# Altium schematic symbol library RF Module.SchLib: 12 symbols
Pins are listed as number, name and electrical type; pins without a type are passive.

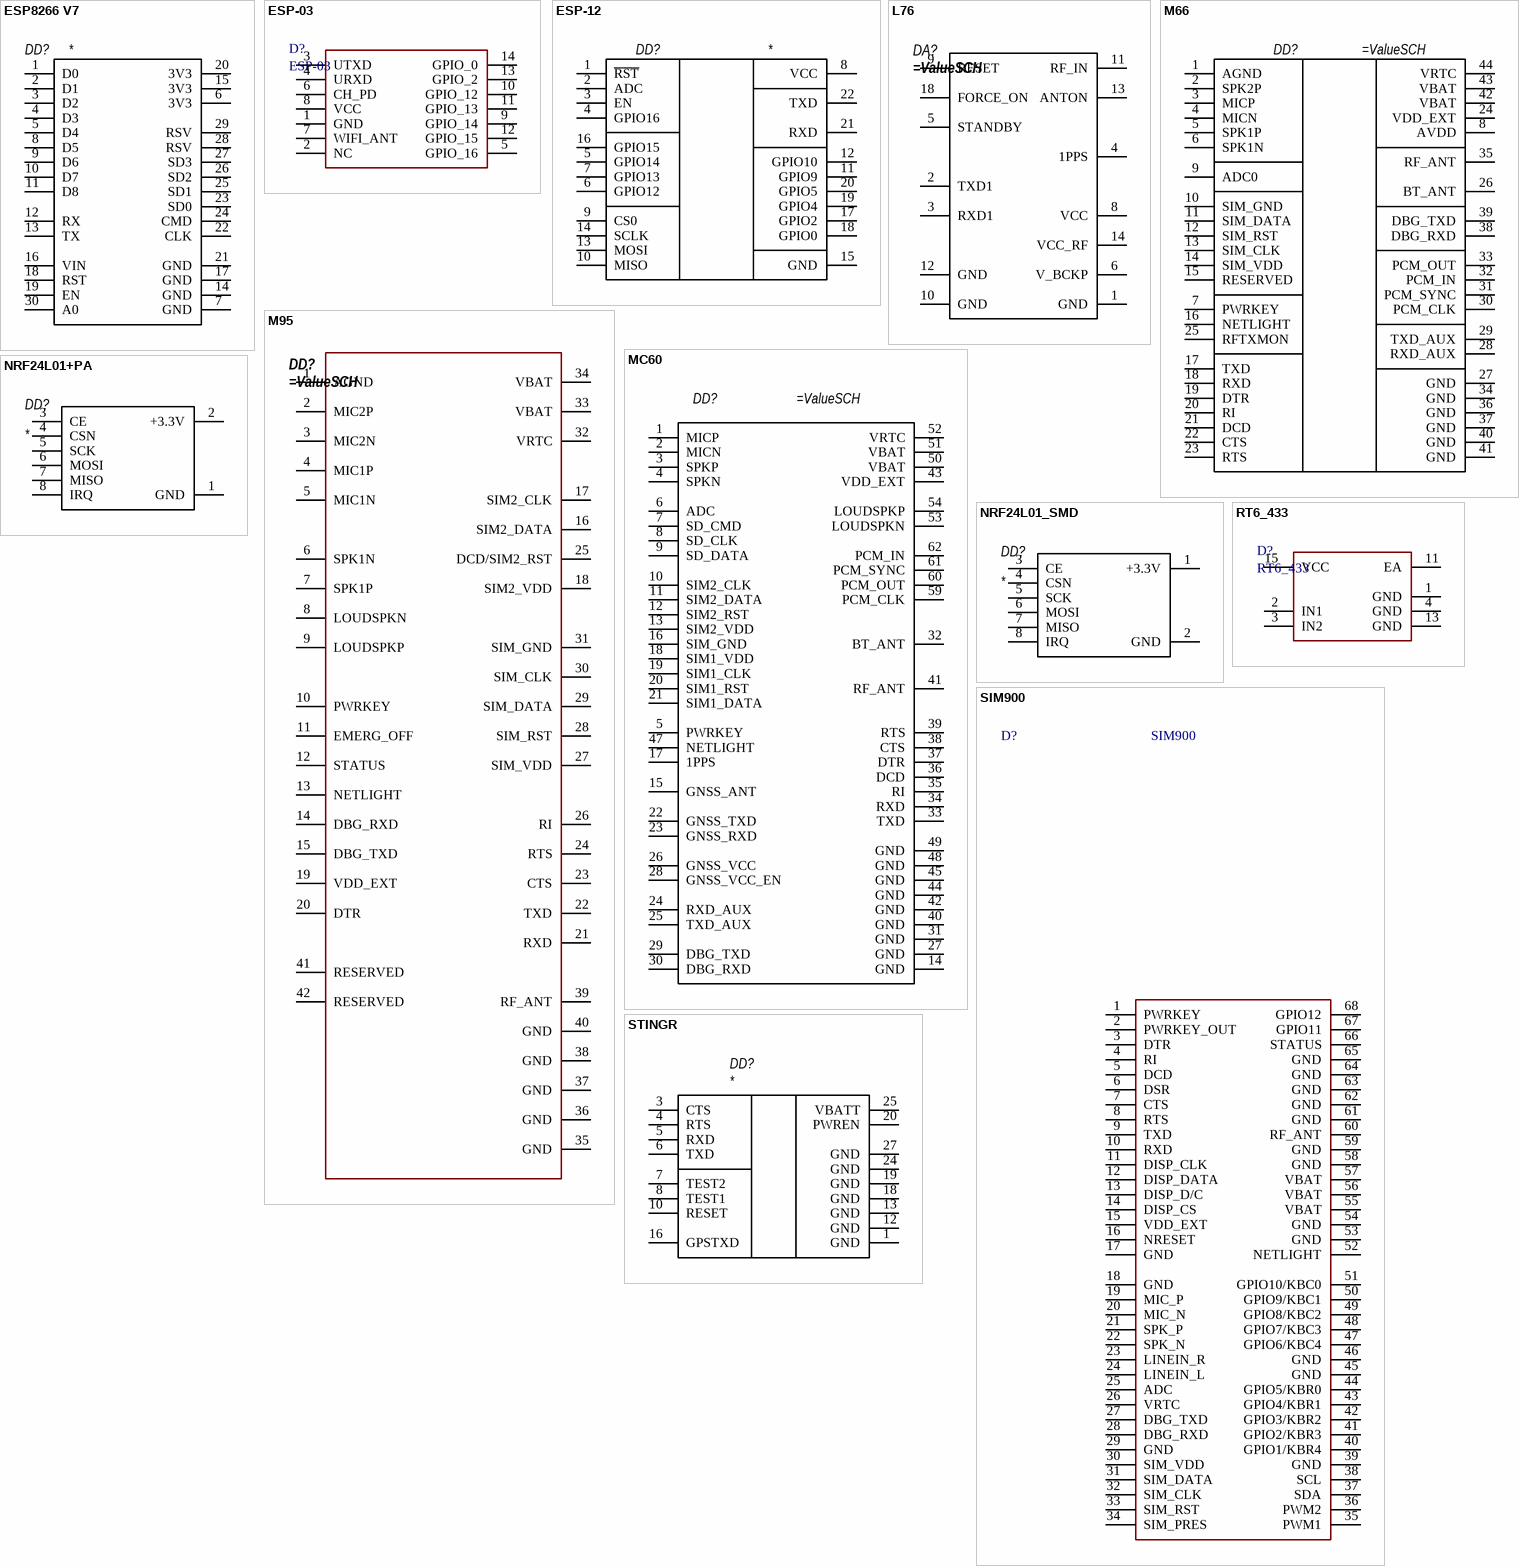
[diagram p0: symbols ESP8266 V7 to STINGR]

## ESP8266 V7
designator DD?
pins: 1 D0, 2 D1, 3 D2, 4 D3, 5 D4, 6 3V3, 7 GND, 8 D5, 9 D6, 10 D7, 11 D8, 12 RX, 13 TX, 14 GND, 15 3V3, 16 VIN, 17 GND, 18 RST, 19 EN, 20 3V3, 21 GND, 22 CLK, 23 SD0, 24 CMD, 25 SD1, 26 SD2, 27 SD3, 28 RSV, 29 RSV, 30 A0

## ESP-03
designator D?
ESP8266 ESP03
footprint ESP8266_SMD (ESP03)
pins: 1 GND, 2 NC, 3 UTXD, 4 URXD, 5 GPIO_16, 6 CH_PD, 7 WIFI_ANT, 8 VCC, 9 GPIO_14, 10 GPIO_12, 11 GPIO_13, 12 GPIO_15, 13 GPIO_2, 14 GPIO_0

## ESP-12
designator DD?
pins: 1 ~{RST}, 2 ADC, 3 EN, 4 GPIO16, 5 GPIO14, 6 GPIO12, 7 GPIO13, 8 VCC, 9 CS0, 10 MISO, 11 GPIO9, 12 GPIO10, 13 MOSI, 14 SCLK, 15 GND, 16 GPIO15, 17 GPIO2, 18 GPIO0, 19 GPIO4, 20 GPIO5, 21 RXD, 22 TXD

## L76
designator DA?
pins: 1 GND, 2 TXD1, 3 RXD1, 4 1PPS, 5 STANDBY, 6 V_BCKP, 7 NC hidden, 8 VCC, 9 RESET, 10 GND, 11 RF_IN, 12 GND, 13 ANTON, 14 VCC_RF, 15 NC hidden, 16 RES hidden, 17 RES hidden, 18 FORCE_ON

## M66
designator DD?
pins: 1 AGND, 2 SPK2P, 3 MICP, 4 MICN, 5 SPK1P, 6 SPK1N, 7 PWRKEY, 8 AVDD, 9 ADC0, 10 SIM_GND, 11 SIM_DATA, 12 SIM_RST, 13 SIM_CLK, 14 SIM_VDD, 15 RESERVED, 16 NETLIGHT, 17 TXD, 18 RXD, 19 DTR, 20 RI, 21 DCD, 22 CTS, 23 RTS, 24 VDD_EXT, 25 RFTXMON, 26 BT_ANT, 27 GND hidden to GND, 27 GND, 28 RXD_AUX, 29 TXD_AUX, 30 PCM_CLK, 31 PCM_SYNC, 32 PCM_IN, 33 PCM_OUT, 34 GND hidden to GND, 34 GND, 35 RF_ANT, 36 GND hidden to GND, 36 GND, 37 GND hidden to GND, 37 GND, 38 DBG_RXD, 39 DBG_TXD, 40 GND hidden to GND, 40 GND, 41 GND hidden to GND, 41 GND, 42 VBAT, 43 VBAT, 44 VRTC

## M95
designator DD?
pins: 1 AGND, 2 MIC2P, 3 MIC2N, 4 MIC1P, 5 MIC1N, 6 SPK1N, 7 SPK1P, 8 LOUDSPKN, 9 LOUDSPKP, 10 PWRKEY, 11 EMERG_OFF, 12 STATUS, 13 NETLIGHT, 14 DBG_RXD, 15 DBG_TXD, 16 SIM2_DATA, 17 SIM2_CLK, 18 SIM2_VDD, 19 VDD_EXT, 20 DTR, 21 RXD, 22 TXD, 23 CTS, 24 RTS, 25 DCD/SIM2_RST, 26 RI, 27 SIM_VDD, 28 SIM_RST, 29 SIM_DATA, 30 SIM_CLK, 31 SIM_GND, 32 VRTC, 33 VBAT, 34 VBAT, 35 GND hidden to GND, 35 GND, 36 GND hidden to GND, 36 GND, 37 GND hidden to GND, 37 GND, 38 GND hidden to GND, 38 GND, 39 RF_ANT, 40 GND hidden to GND, 40 GND, 41 RESERVED, 42 RESERVED

## MC60
designator DD?
pins: 1 MICP, 2 MICN, 3 SPKP, 4 SPKN, 5 PWRKEY, 6 ADC, 7 SD_CMD, 8 SD_CLK, 9 SD_DATA, 10 SIM2_CLK, 11 SIM2_DATA, 12 SIM2_RST, 13 SIM2_VDD, 14 GND, 15 GNSS_ANT, 16 SIM_GND, 17 1PPS, 18 SIM1_VDD, 19 SIM1_CLK, 20 SIM1_RST, 21 SIM1_DATA, 22 GNSS_TXD, 23 GNSS_RXD, 24 RXD_AUX, 25 TXD_AUX, 26 GNSS_VCC, 27 GND, 28 GNSS_VCC_EN, 29 DBG_TXD, 30 DBG_RXD, 31 GND, 32 BT_ANT, 33 TXD, 34 RXD, 35 RI, 36 DCD, 37 DTR, 38 CTS, 39 RTS, 40 GND, 41 RF_ANT, 42 GND, 43 VDD_EXT, 44 GND, 45 GND, 46 RESERVED hidden, 47 NETLIGHT, 48 GND, 49 GND, 50 VBAT, 51 VBAT, 52 VRTC, 53 LOUDSPKN, 54 LOUDSPKP, 55 RESERVED hidden, 56 RESERVED hidden, 57 RESERVED hidden, 58 RESERVED hidden, 59 PCM_CLK, 60 PCM_OUT, 61 PCM_SYNC, 62 PCM_IN, 63 RESERVED hidden, 64 RESERVED hidden, 65 RESERVED hidden, 66 RESERVED hidden, 67 RESERVED hidden, 68 RESERVED hidden

## NRF24L01+PA
designator DD?
pins: 1 GND, 2 +3.3V, 3 CE, 4 CSN, 5 SCK, 6 MOSI, 7 MISO, 8 IRQ

## NRF24L01_SMD
designator DD?
pins: 1 +3.3V, 2 GND, 3 CE, 4 CSN, 5 SCK, 6 MOSI, 7 MISO, 8 IRQ

## RT6_433
designator D?
footprint RT6_433_SIL_15
pins: 1 GND, 2 IN1, 3 IN2, 4 GND, 11 EA, 13 GND, 15 VCC

## SIM900
designator D?
GSM/GPRS module SIM900; Autor: Yanichar http://zeroelectronics.ru/autor; Order: SIM900; Value: SIM900
footprint SIM900 (PCB for sim900)
pins: 1 PWRKEY, 2 PWRKEY_OUT, 3 DTR, 4 RI, 5 DCD, 6 DSR, 7 CTS, 8 RTS, 9 TXD, 10 RXD, 11 DISP_CLK, 12 DISP_DATA, 13 DISP_D/C, 14 DISP_CS, 15 VDD_EXT, 16 NRESET, 17 GND, 18 GND, 19 MIC_P, 20 MIC_N, 21 SPK_P, 22 SPK_N, 23 LINEIN_R, 24 LINEIN_L, 25 ADC, 26 VRTC, 27 DBG_TXD, 28 DBG_RXD, 29 GND, 30 SIM_VDD, 31 SIM_DATA, 32 SIM_CLK, 33 SIM_RST, 34 SIM_PRES, 35 PWM1, 36 PWM2, 37 SDA, 38 SCL, 39 GND, 40 GPIO1/KBR4, 41 GPIO2/KBR3, 42 GPIO3/KBR2, 43 GPIO4/KBR1, 44 GPIO5/KBR0, 45 GND, 46 GND, 47 GPIO6/KBC4, 48 GPIO7/KBC3, 49 GPIO8/KBC2, 50 GPIO9/KBC1, 51 GPIO10/KBC0, 52 NETLIGHT, 53 GND, 54 GND, 55 VBAT, 56 VBAT, 57 VBAT, 58 GND, 59 GND, 60 RF_ANT, 61 GND, 62 GND, 63 GND, 64 GND, 65 GND, 66 STATUS, 67 GPIO11, 68 GPIO12

## STINGR
designator DD?
pins: 1 GND, 2 RESERVED hidden, 3 CTS, 4 RTS, 5 RXD, 6 TXD, 7 TEST2, 8 TEST1, 9 RESERVED hidden, 10 RESET, 11 RESERVED hidden, 12 GND, 13 GND, 14 RESERVED hidden, 15 RESERVED hidden, 16 GPSTXD, 17 RESERVED hidden, 18 GND, 19 GND, 20 PWREN, 21 RESERVED hidden, 22 RESERVED hidden, 23 RESERVED hidden, 24 GND, 25 VBATT, 26 RESERVED hidden, 27 GND